# EAGLE library part BREAKOUT (library we-board)
Breakout Template
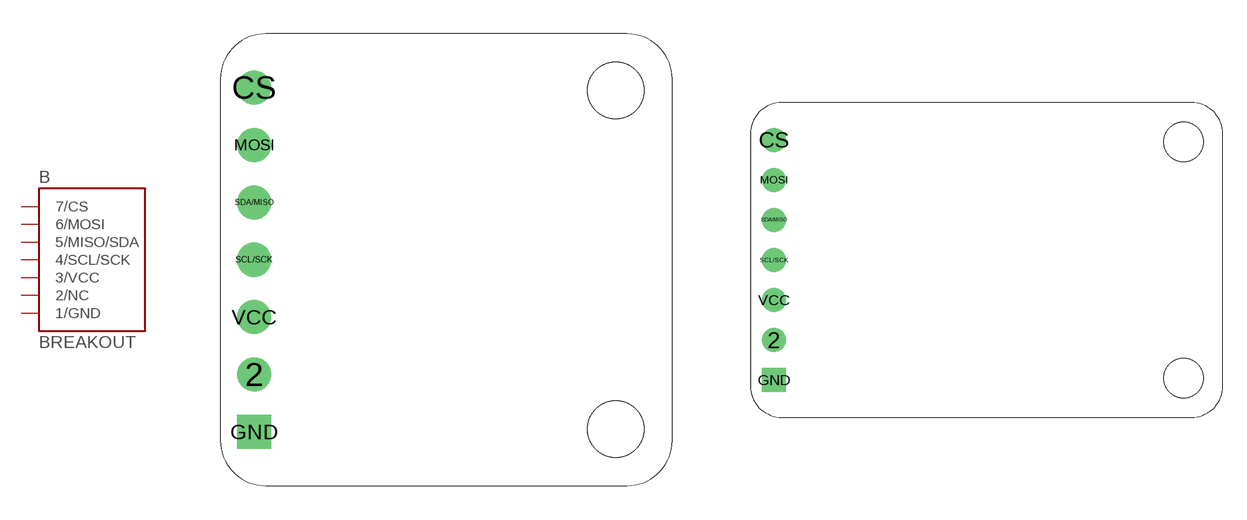
[diagram p10: symbol with the pads of BREAKOUT-20X20; footprints BREAKOUT-20X20, BREAKOUT-30X20]

Designator prefix B

## BREAKOUT-20X20  [BREAKOUT-20X20]
2  2/NC
CS  7/CS
GND  1/GND  pwr
MOSI  6/MOSI
SCL/SCK  4/SCL/SCK
SDA/MISO  5/MISO/SDA
VCC  3/VCC  pwr

## BREAKOUT-30X20  [BREAKOUT-30X20]
Pads as for BREAKOUT-20X20

## Footprint BREAKOUT-20X20 (pad centres in mm)
20 x 20 mm
drill 1: 2 -8.5,-5.08; CS -8.5,7.62; MOSI -8.5,5.08; SCL/SCK -8.5,0; SDA/MISO -8.5,2.54; VCC -8.5,-2.54
drill 1 square: GND -8.5,-7.62
hole 2.5 at 7.5,-7.5
hole 2.5 at 7.5,7.5

## Footprint BREAKOUT-30X20 (pad centres in mm)
30 x 20 mm
drill 1: 2 -8.5,-5.08; CS -8.5,7.62; MOSI -8.5,5.08; SCL/SCK -8.5,0; SDA/MISO -8.5,2.54; VCC -8.5,-2.54
drill 1 square: GND -8.5,-7.62
hole 2.5 at 17.5,-7.5
hole 2.5 at 17.5,7.5